# EAGLE library part LMR33630 (library SparkFun-IC-Power)
Texas Instruments LMR33630 3.8V-36V 3A Regulator The LMR33630 SIMPLE SWITCHER® regulator is an easy-to-use, synchronous, step-down DC/DC converter that delivers best-in-class efficiency for rugged industrial applications. The LMR33630 drives up to 3 A of load current from an input of up to 36 V.
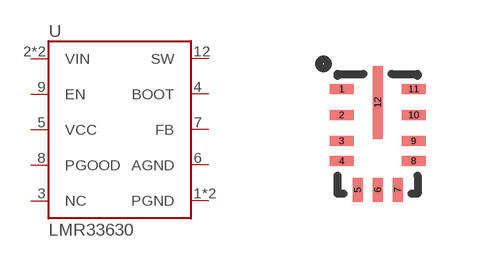
[diagram p32: symbol with the pads of VQFN-HR-12; footprint VQFN-HR-12]

Designator prefix U

## LMR33630 (PROD_ID: VREG-15445; VALUE: LMR33630)  [VQFN-HR-12]
1  PGND
2  VIN
3  NC
4  BOOT
5  VCC
6  AGND
7  FB
8  PGOOD
9  EN
10  VIN
11  PGND
12  SW

## Footprint VQFN-HR-12 (pad centres in mm)
smd 0.6 x 0.25: 1 -0.9,1.125; 2 -0.9,0.475; 3 -0.9,-0.175; 4 -0.9,-0.675; 8 0.9,-0.675; 9 0.9,-0.175; 10 0.9,0.475; 11 0.9,1.125
smd 0.25 x 0.6: 5 -0.5,-1.4; 6 0,-1.4; 7 0.5,-1.4
smd 0.25 x 1.824: 12 0,0.788